# EAGLE library part DIN5 (library we-con)
Standard DIN Connector (5-Pin)
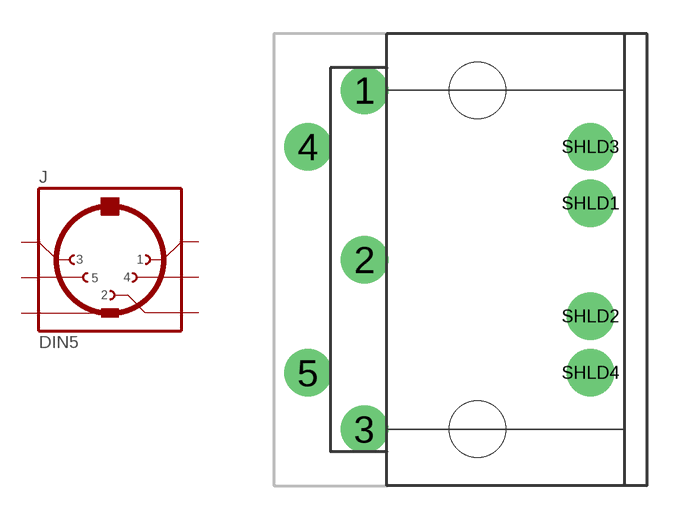
[diagram p43: symbol with the pads of DIN-SDS-50J; footprint DIN-SDS-50J]

Designator prefix J

## DIN5-SDS-50J  [DIN-SDS-50J]
1  1  pas
2  2  pas
3  3  pas
4  4  pas
5  5  pas
SHLD1  SHLD  pas
SHLD2  SHLD  pas
SHLD3  SHLD  pas
SHLD4  SHLD  pas

## Footprint DIN-SDS-50J (pad centres in mm)
CUI SDS-50J and MABP5S
drill 1.4: 1 -5,7.5; 2 -5,0; 3 -5,-7.5; 4 -7.5,5; 5 -7.5,-5; SHLD1 5,2.5; SHLD2 5,-2.5; SHLD3 5,5; SHLD4 5,-5
hole 2.5 at 0,-7.5
hole 2.5 at 0,7.5